# Altium footprint library Switches.PcbLib: 8 footprints
Each footprint in its own frame and in the unit in brackets; x right, y up, seen from the top. Pads: shape width x height; smd on the part's side, far side on the other; paste and mask are expansions set on the pad; w line width, h text height; cw(c..) or ccw(c..) is an arc to the next point about the centre after c.
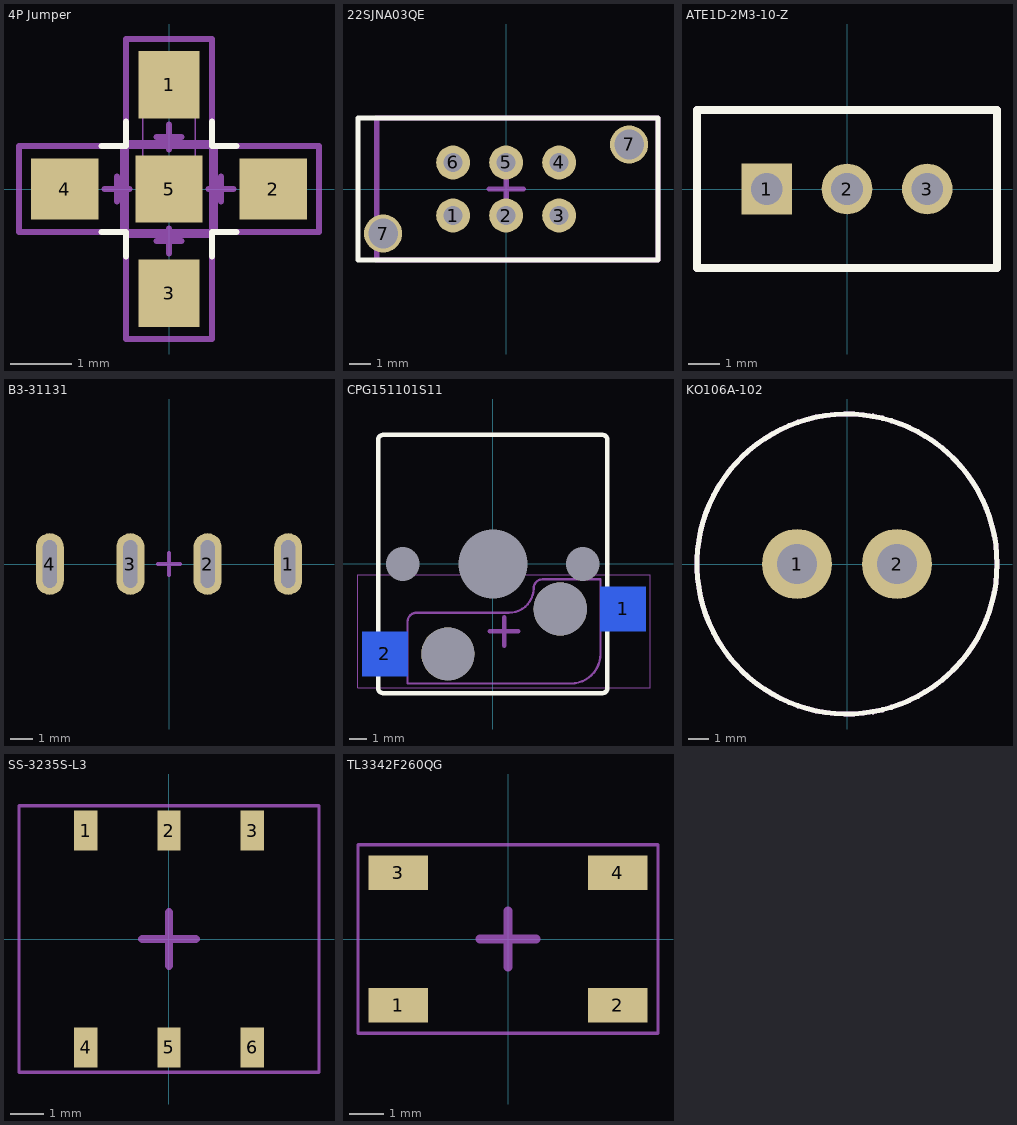
[diagram p0: the footprints below, top view; thin cyan lines are the x and y axes]

## 4P Jumper [mm] "0603 4 Position Jumper"
pads (5):
  rect 1x1.1 smd: 1(0,1.7) 3(0,-1.7)
  rect 1.1x1 smd: 2(1.7,0) 4(-1.7,0)
  rect 1.1x1.1 smd: 5(0,0)
Top Overlay:
  lines w0.1: -1.1,-0.7 -0.7,-0.7 -0.7,-1.1 ; -1.1,0.7 -0.7,0.7 -0.7,1.1 ; 0.7,-1.1 0.7,-0.7 1.1,-0.7 ; 0.7,1.1 0.7,0.7 1.1,0.7
Top Assembly Dwg:
  lines w0.025: -0.432,0.063 -0.432,1.637 0.432,1.637 0.432,0.063 -0.432,0.063
Mechanical 15:
  lines w0.1: -1.05,0 -0.65,0 ; -0.85,-0.2 -0.85,0.2 ; -0.2,-0.85 0.2,-0.85 ; -0.2,0.85 0.2,0.85 ; 0,-1.05 0,-0.65 ; 0,0.65 0,1.05 ; 0.65,0 1.05,0 ; 0.85,-0.2 0.85,0.2 ; -2.45,-0.7 0.75,-0.7 0.75,0.7 -2.45,0.7 -2.45,-0.7 ; -0.75,-0.7 2.45,-0.7 2.45,0.7 -0.75,0.7 -0.75,-0.7 ; -0.7,-2.45 -0.7,0.75 0.7,0.75 0.7,-2.45 -0.7,-2.45 ; -0.7,-0.75 0.7,-0.75 0.7,2.45 -0.7,2.45 -0.7,-0.75
3D body "RES0603.STEP": height 0.44, standoff -0.02, extent -0.43,0.075 0.43,1.625

## 22SJNA03QE [mm] "SWITCH PUSHBUTTON DPDT O-O 0.2A 30V"
height 1.5
pads (8):
  round 1.6 hole 0.9: 1(-2.5,-1.25) 2(0,-1.25) 3(2.5,-1.25) 4(2.5,1.25) 5(0,1.25) 6(-2.5,1.25)
  round 1.8 hole 1.4: 7(-5.8,-2.1) 7(5.8,2.1)
Top Overlay:
  lines w0.254: -6.985,-3.35 7.163,-3.35 7.163,3.35 -6.985,3.35 -6.985,-3.35
Mechanical 15:
  lines w0.254: -0.8,0 0.8,0 ; 0,-0.8 0,0.8 ; -6.1,-3.35 7.163,-3.35 ; -6.1,-3.35 -6.1,3.35 ; -6.1,-3.35 7.163,-3.35 ; -6.1,-3.35 -6.1,3.35 ; -6.1,-3.35 7.163,-3.35 ; -6.1,-3.35 -6.1,3.35 ; -6.1,3.35 7.163,3.35 ; -6.1,3.35 7.163,3.35 ; -6.1,3.35 7.163,3.35 ; 7.163,-3.35 7.163,3.35 ; 7.163,-3.35 7.163,3.35 ; 7.163,-3.35 7.163,3.35
3D body "PN22SJNA03QE Switch v4.step": height 8.31, standoff -3.49, extent -6.1,-3.35 15.9,3.35

## ATE1D-2M3-10-Z [mm]
pads (3):
  rect 1.6x1.6 hole 1: 1(-2.54,0)
  round 1.6 hole 1: 2(0,0) 3(2.54,0)
Top Overlay:
  lines w0.254: -4.75,-2.5 -4.75,2.5 4.75,2.5 4.75,-2.5 -4.75,-2.5
Top Assembly Dwg:
  lines w0.254: -4.75,-2.5 4.75,-2.5 4.75,2.5 -4.75,2.5 -4.75,-2.5
  text ".Designator" at -6.25,-0.5 h1.2
3D body "ATE1D-2M3-10-Z.stp": height 16.81, standoff -3.29, extent -4.75,-2.5 4.75,2.5

## B3-31131 [mil] "Snap Action Switches 8A SPDT PC Pins High Current MIL"
height 350.39
pads (4):
  oval 50x110 hole 25 slot 85 at 90 deg: 1(213,0) 2(69,0) 3(-69,0) 4(-213,0)
Mechanical 15:
  lines w7.87: -19.68,0 19.68,0 ; 0,-19.68 0,0 0,19.68

## CPG151101S11 [mm] "Kailh MX Socket"
height 1.5
pads (7):
  rect 2.55x2.5 smd far side: 1(7.36,-2.54) 2(-6.09,-5.08)
  round 1 hole 1.9: ""(-5.08,0) ""(5.08,0)
  round 3 hole 3 unplated mask+0: ""(-2.54,-5.08) ""(3.81,-2.54)
  round 3 hole 3.9: ""(0,0)
Top Overlay:
  lines w0.254: -6.475,-7.003 ccw(c-6.178,-7.003) -6.178,-7.3 6.177,-7.3 ccw(c6.177,-7.003) 6.475,-7.003 6.475,7.003 ccw(c6.177,7.003) 6.177,7.3 -6.178,7.3 ccw(c-6.178,7.003) -6.475,7.003 -6.475,-7.003
Bottom Overlay:
  circle w0.2: c9.235,-2.51 r0.1
  lines w0.127: -4.815,-3.51 -4.815,-3.255 cw(c-4.315,-3.255) -4.315,-2.755 0.92,-2.755 ccw(c0.92,-1.365) 2.31,-1.365 cw(c2.81,-1.365) 2.81,-0.865 ; -1.54,-6.755 4.41,-6.755 ccw(c4.41,-5.08) 6.085,-5.08 6.085,-4.11
3D Bodies:
  lines w0.127: -4.815,-6.755 4.41,-6.755 ccw(c4.41,-5.08) 6.085,-5.08 6.085,-0.865 2.81,-0.865 ccw(c2.81,-1.365) 2.31,-1.365 cw(c0.92,-1.365) 0.92,-2.755 -4.315,-2.755 ccw(c-4.315,-3.255) -4.815,-3.255 -4.815,-6.755
Mechanical 15:
  lines w0.05: -7.615,-7.005 8.885,-7.005 8.885,-0.615 -7.615,-0.615 -7.615,-7.005
  lines w0.254: -0.165,-3.81 1.435,-3.81 ; 0.635,-4.61 0.635,-3.01
3D body "Kailh Hotswap.step": height 0.8, standoff -2.25, extent -6.615,-6.755 7.885,-0.865
3D body "Kailh Polia.step": height 15.96, standoff -2.58, extent -6.975,-7.777 6.975,7.823

## KO106A-102 [mm]
pads (2):
  round 3.5 hole 2: 1(-2.5,0) 2(2.5,0)
Top Overlay:
  circle w0.254: c0,0 r7.5
Top Assembly Dwg:
  circle w0.254: c0,0 r7.5
  text ".Designator" at -6,-0.5 h1.2
3D body: height 14.3, standoff 0, extent -7.499,-7.499 7.499,7.499

## SS-3235S-L3 [mm] "SWITCH TOGGLE DPDT O-O 0.05A 12V"
height 1.5
pads (6):
  rect 0.7x1.2 smd: 1(-2.5,3.25) 2(0,3.25) 3(2.5,3.25) 4(-2.5,-3.25) 5(0,-3.25) 6(2.5,-3.25)
Mechanical 15:
  lines w0.1: 4.5,3.993 4.5,-4 -3.7,-4 -4.5,-4 -4.5,4 4.5,4
  lines w0.254: -0.8,0 0.8,0 ; 0,-0.8 0,0.8
3D body "PZ_Switch_SMD.stp": height 5.65, standoff -0.2, extent -4.5,-3.5 4.5,3.5

## TL3342F260QG [mm] "SWITCH TACTILE SPST-NO 0.05A 12V"
height 1.5
pads (4):
  rect 1.7x1 smd: 1(-3.15,-1.9) 2(3.15,-1.9) 3(-3.15,1.9) 4(3.15,1.9)
Mechanical 15:
  lines w0.1: -4.3,-2.7 4.3,-2.7 4.3,2.7 -4.3,2.7 -4.3,-2.7
  lines w0.254: -0.8,0 0.8,0 ; 0,-0.8 0,0.8
3D body "TL3342F260 SMD Switch v1.step": height 1.52, standoff 0.01, extent -3.3,-2.5 3.3,2.5